# Altium footprint library cc98.PcbLib: 54 footprints (part 4 of 4)
Each footprint in its own frame and in the unit in brackets; x right, y up, seen from the top. Pads: shape width x height; smd on the part's side, far side on the other; paste and mask are expansions set on the pad; w line width, h text height; cw(c..) or ccw(c..) is an arc to the next point about the centre after c.
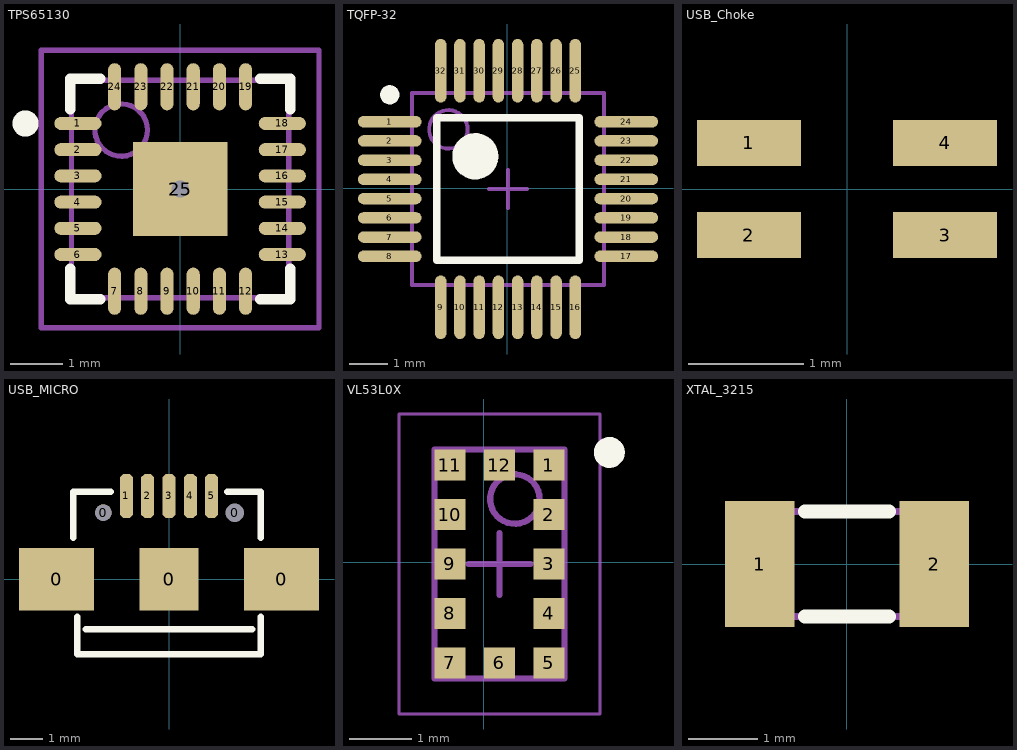
[diagram p3: the footprints below, top view; thin cyan lines are the x and y axes]

## TPS65130 [mm] "QFN, 24-Leads, Body 4.2x4.2mm (max), Pitch 0.50mm, IPC Medium Density"
height 10
pads (25):
  oval 0.9x0.25 smd: 1(-1.95,1.25) 2(-1.95,0.75) 3(-1.95,0.25) 4(-1.95,-0.25) 5(-1.95,-0.75) 6(-1.95,-1.25) 13(1.95,-1.25) 14(1.95,-0.75) 15(1.95,-0.25) 16(1.95,0.25) 17(1.95,0.75) 18(1.95,1.25)
  oval 0.25x0.9 smd: 7(-1.25,-1.95) 8(-0.75,-1.95) 9(-0.25,-1.95) 10(0.25,-1.95) 11(0.75,-1.95) 12(1.25,-1.95) 19(1.25,1.95) 20(0.75,1.95) 21(0.25,1.95) 22(-0.25,1.95) 23(-0.75,1.95) 24(-1.25,1.95)
  rect 1.8x1.8 smd: 25(0,0)
via 0,0 diameter 0.66 hole 0.33
Top Overlay:
  circle w0.25: c-2.95,1.25 r0.125
  lines w0.2: -2.1,-1.525 -2.1,-2.1 -1.525,-2.1 ; -2.1,1.525 -2.1,2.1 -1.525,2.1 ; 1.525,-2.1 2.1,-2.1 2.1,-1.525 ; 1.525,2.1 2.1,2.1 2.1,1.525
Mechanical 13:
  circle w0.1: c-1.125,1.125 r0.5
  lines w0.1: -2.075,-2.075 -2.075,2.075 2.075,2.075 2.075,-2.075 -2.075,-2.075
Mechanical 15:
  lines w0.1: -0.5,0 0.5,0 ; 0,-0.5 0,0.5 ; -2.65,-2.65 -2.65,2.65 2.65,2.65 2.65,-2.65 -2.65,-2.65
3D body: height 10, standoff 0.08, extent -2.075,-2.075 2.075,2.075

## TQFP-32 [mm]
pads (32):
  oval 1.65x0.3 smd: 1(-3.06,1.732) 2(-3.06,1.232) 3(-3.06,0.732) 4(-3.06,0.232) 5(-3.06,-0.268) 6(-3.06,-0.768) 7(-3.06,-1.268) 8(-3.06,-1.768) 17(3.09,-1.768) 18(3.09,-1.268) 19(3.09,-0.768) 20(3.09,-0.268) 21(3.09,0.232) 22(3.09,0.732) 23(3.09,1.232) 24(3.09,1.732)
  oval 0.3x1.65 smd: 9(-1.735,-3.093) 10(-1.235,-3.093) 11(-0.735,-3.093) 12(-0.235,-3.093) 13(0.265,-3.093) 14(0.765,-3.093) 15(1.265,-3.093) 16(1.765,-3.093) 25(1.765,3.057) 26(1.265,3.057) 27(0.765,3.057) 28(0.265,3.057) 29(-0.235,3.057) 30(-0.735,3.057) 31(-1.235,3.057) 32(-1.735,3.057)
Top Overlay:
  circle w0.25: c-3.06,2.432 r0.125
  circle w0.6: c-0.835,0.832 r0.3
  lines w0.2: -1.835,-1.868 -1.835,1.832 1.865,1.832 1.865,-1.868 -1.835,-1.868
Mechanical 13:
  circle w0.1: c-1.535,1.532 r0.5
  lines w0.1: -2.485,-2.518 -2.485,2.482 2.515,2.482 2.515,-2.518 -2.485,-2.518
Mechanical 15:
  lines w0.1: -0.485,-0.018 0.515,-0.018 ; 0.015,-0.518 0.015,0.482
3D body: height 1.2, standoff 0.1, extent -2.485,-2.518 2.515,2.482

## USB_Choke [mm]
height 9.6
pads (4):
  rect 0.9x0.4 smd: 1(-0.85,0.4) 2(-0.85,-0.4) 3(0.85,-0.4) 4(0.85,0.4)

## USB_MICRO [mm] "USB方孔"
height 8
pads (10):
  rect 2.286x1.9 smd: 0(-3.429,0) 0(3.429,0)
  round 0.5 hole 0.5: 0(-2,2.032)
  rect 1.8x1.9 smd: 0(0,0)
  round 0.5 hole 0.56: 0(2,2.032)
  oct 0.4x1.35 smd: 1(-1.3,2.54) 2(-0.65,2.54) 3(0,2.54) 4(0.65,2.54) 5(1.3,2.54)
Top Overlay:
  lines w0.2: -2.921,1.27 -2.921,2.667 -1.778,2.667 ; -2.794,-1.143 -2.794,-2.286 2.794,-2.286 2.794,-1.143 ; -2.54,-1.524 2.54,-1.524 ; 1.778,2.667 2.794,2.667 2.794,1.27
3D body "micro usb.STEP": height 2.77, standoff -0.26, extent -4.055,-2.709 4.024,2.854

## VL53L0X [mm] "QFN, 12-Leads, Body 2.10x3.70mm, Pitch 0.80mm, IPC Medium Density"
height 1
pads (12):
  rect 0.5x0.5 smd: 1(1.054,1.575) 2(1.054,0.775) 3(1.054,-0.025) 4(1.054,-0.825) 5(1.054,-1.625) 6(0.254,-1.625) 7(-0.546,-1.625) 8(-0.546,-0.825) 9(-0.546,-0.025) 10(-0.546,0.775) 11(-0.546,1.575) 12(0.254,1.575)
Top Overlay:
  circle w0.25: c2.032,1.778 r0.125
Mechanical 13:
  circle w0.1: c0.504,1.025 r0.4
  lines w0.1: -0.796,-1.875 1.304,-1.875 1.304,1.825 -0.796,1.825 -0.796,-1.875
Mechanical 15:
  lines w0.05: -1.371,-2.45 1.879,-2.45 1.879,2.4 -1.371,2.4 -1.371,-2.45
  lines w0.1: -0.246,-0.025 0.754,-0.025 ; 0.254,-0.525 0.254,0.475
3D body: height 1, standoff 0.01, extent -0.796,-1.875 1.304,1.825

## XTAL_3215 [mm]
pads (2):
  rect 1x1.8 smd: 1(-1.25,0) 2(1.25,0)
Top Overlay:
  lines w0.2: -0.6,-0.75 0.6,-0.75 ; -0.6,0.75 0.6,0.75
Mechanical 3:
  lines w0.1: -1.6,-0.55 cw(c-1.6,-0.75) -1.4,-0.75 1.4,-0.75 cw(c1.6,-0.75) 1.6,-0.55 1.6,0.55 cw(c1.6,0.75) 1.4,0.75 -1.4,0.75 cw(c-1.6,0.75) -1.6,0.55 -1.6,-0.55
3D body "User Library-Siward_SX3215.step": height 0.81, standoff 0, extent -1.6,-0.75 1.6,0.75
3D body: height 0.81, standoff 0.15, extent -1.2,-0.6 1.2,0.6